# Altium footprint library HARTING_09731962903.PcbLib: 1 footprints
Each footprint in its own frame and in the unit in brackets; x right, y up, seen from the top. Pads: shape width x height; smd on the part's side, far side on the other; paste and mask are expansions set on the pad; w line width, h text height; cw(c..) or ccw(c..) is an arc to the next point about the centre after c.
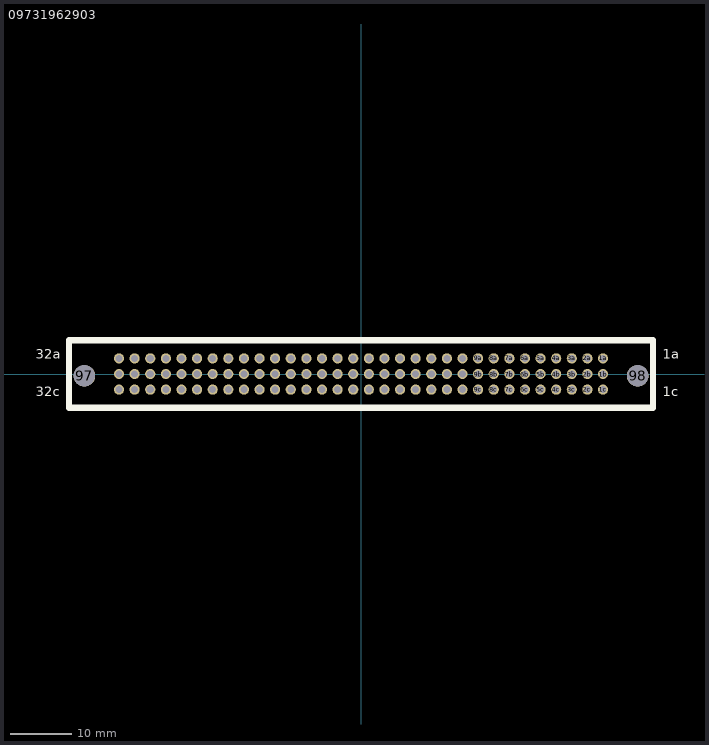
[diagram p0: the footprint, top view; thin cyan lines are the x and y axes]

## 09731962903 [mil]
pads (98):
  round 65 hole 45 mask+0: 1a(1550,100) 1b(1550,0) 1c(1550,-100) 2a(1450,100) 2b(1450,0) 2c(1450,-100) 3a(1350,100) 3b(1350,0) 3c(1350,-100) 4a(1250,100) 4b(1250,0) 4c(1250,-100) 5a(1150,100) 5b(1150,0) 5c(1150,-100) 6a(1050,100) 6b(1050,0) 6c(1050,-100) 7a(950,100) 7b(950,0) 7c(950,-100) 8a(850,100) 8b(850,0) 8c(850,-100) 9a(750,100) 9b(750,0) 9c(750,-100) 10a(650,100) 10b(650,0) 10c(650,-100) 11a(550,100) 11b(550,0) 11c(550,-100) 12a(450,100) 12b(450,0) 12c(450,-100) 13a(350,100) 13b(350,0) 13c(350,-100) 14a(250,100) 14b(250,0) 14c(250,-100) 15a(150,100) 15b(150,0) 15c(150,-100) 16a(50,100) 16b(50,0) 16c(50,-100) 17a(-50,100) 17b(-50,0) 17c(-50,-100) 18a(-150,100) 18b(-150,0) 18c(-150,-100) 19a(-250,100) 19b(-250,0) 19c(-250,-100) 20a(-350,100) 20b(-350,0) 20c(-350,-100) 21a(-450,100) 21b(-450,0) 21c(-450,-100) 22a(-550,100) 22b(-550,0) 22c(-550,-100) 23a(-650,100) 23b(-650,0) 23c(-650,-100) 24a(-750,100) 24b(-750,0) 24c(-750,-100) 25a(-850,100) 25b(-850,0) 25c(-850,-100) 26a(-950,100) 26b(-950,0) 26c(-950,-100) 27a(-1050,100) 27b(-1050,0) 27c(-1050,-100) 28a(-1150,100) 28b(-1150,0) 28c(-1150,-100) 29a(-1250,100) 29b(-1250,0) 29c(-1250,-100) 30a(-1350,100) 30b(-1350,0) 30c(-1350,-100) 31a(-1450,100) 31b(-1450,0) 31c(-1450,-100) 32a(-1550,100) 32b(-1550,0) 32c(-1550,-100)
  round 137.8 hole 137.8 unplated: 97(-1771.65,-11.81) 98(1771.65,-11.81)
Top Overlay:
  lines w39.37: -1870.08,-216.54 -1870.08,216.54 1870.08,216.54 1870.08,-216.54 -1870.08,-216.54
  text "32c" at -2083,-142 h60
  text "32a" at -2083,97 h60
  text "1c" at 1933,-142 h60
  text "1a" at 1933,97 h60
3D body: height 10, standoff 0, extent -1550,100 -1540,110